# Altium schematic symbol library TE-2309413-1.SchLib: 1 symbol
Pins are listed as number, name and electrical type; pins without a type are passive.

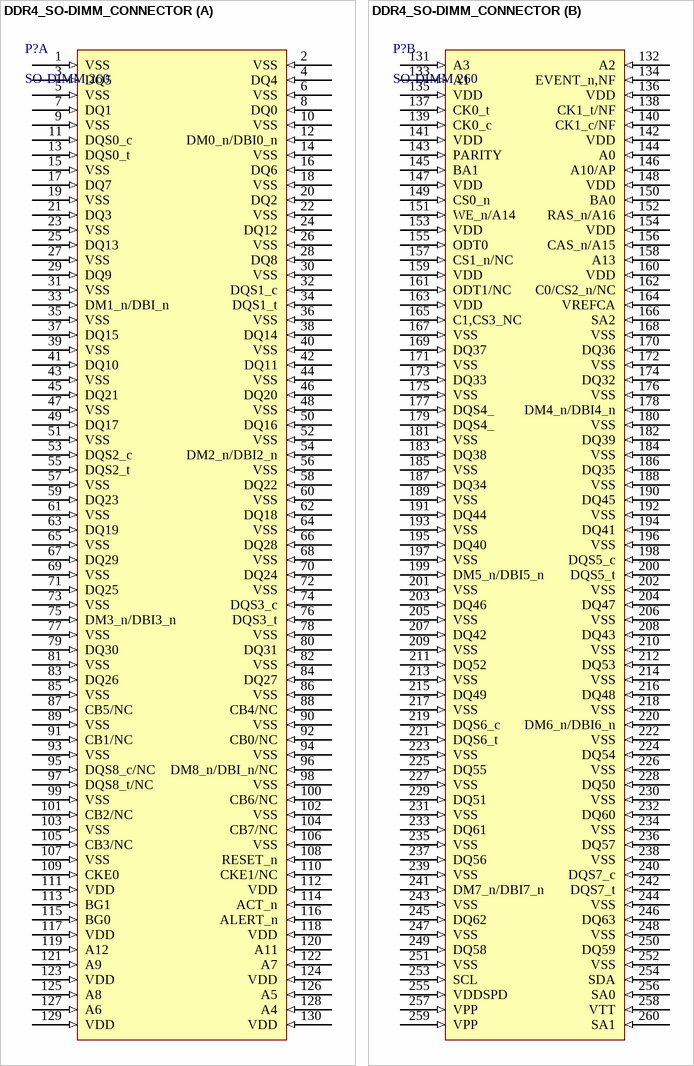
[diagram p0: symbol DDR4_SO-DIMM_CONNECTOR]

## DDR4_SO-DIMM_CONNECTOR
designator P?, comment SO-DIMM 260
footprint TE_2309413-1_2309413-1(Primary)
part A pins: 1 VSS (in), 2 VSS (in), 3 DQ5 (in), 4 DQ4 (in), 5 VSS (in), 6 VSS (in), 7 DQ1 (in), 8 DQ0 (in), 9 VSS (in), 10 VSS (in), 11 DQS0_c (in), 12 DM0_n/DBI0_n (in), 13 DQS0_t (in), 14 VSS (in), 15 VSS (in), 16 DQ6 (in), 17 DQ7 (in), 18 VSS (in), 19 VSS (in), 20 DQ2 (in), 21 DQ3 (in), 22 VSS (in), 23 VSS (in), 24 DQ12 (in), 25 DQ13 (in), 26 VSS (in), 27 VSS (in), 28 DQ8 (in), 29 DQ9 (in), 30 VSS (in), 31 VSS (in), 32 DQS1_c (in), 33 DM1_n/DBI_n (in), 34 DQS1_t (in), 35 VSS (in), 36 VSS (in), 37 DQ15 (in), 38 DQ14 (in), 39 VSS (in), 40 VSS (in), 41 DQ10 (in), 42 DQ11 (in), 43 VSS (in), 44 VSS (in), 45 DQ21 (in), 46 DQ20 (in), 47 VSS (in), 48 VSS (in), 49 DQ17 (in), 50 DQ16 (in), 51 VSS (in), 52 VSS (in), 53 DQS2_c (in), 54 DM2_n/DBI2_n (in), 55 DQS2_t (in), 56 VSS (in), 57 VSS (in), 58 DQ22 (in), 59 DQ23 (in), 60 VSS (in), 61 VSS (in), 62 DQ18 (in), 63 DQ19 (in), 64 VSS (in), 65 VSS (in), 66 DQ28 (in), 67 DQ29 (in), 68 VSS (in), 69 VSS (in), 70 DQ24 (in), 71 DQ25 (in), 72 VSS (in), 73 VSS (in), 74 DQS3_c (in), 75 DM3_n/DBI3_n (in), 76 DQS3_t (in), 77 VSS (in), 78 VSS (in), 79 DQ30 (in), 80 DQ31 (in), 81 VSS (in), 82 VSS (in), 83 DQ26 (in), 84 DQ27 (in), 85 VSS (in), 86 VSS (in), 87 CB5/NC (in), 88 CB4/NC (in), 89 VSS (in), 90 VSS (in), 91 CB1/NC (in), 92 CB0/NC (in), 93 VSS (in), 94 VSS (in), 95 DQS8_c/NC (in), 96 DM8_n/DBI_n/NC (in), 97 DQS8_t/NC (in), 98 VSS (in), 99 VSS (in), 100 CB6/NC (in), 101 CB2/NC (in), 102 VSS (in), 103 VSS (in), 104 CB7/NC (in), 105 CB3/NC (in), 106 VSS (in), 107 VSS (in), 108 RESET_n (in), 109 CKE0 (in), 110 CKE1/NC (in), 111 VDD (in), 112 VDD (in), 113 BG1 (in), 114 ACT_n (in), 115 BG0 (in), 116 ALERT_n (in), 117 VDD (in), 118 VDD (in), 119 A12 (in), 120 A11 (in), 121 A9 (in), 122 A7 (in), 123 VDD (in), 124 VDD (in), 125 A8 (in), 126 A5 (in), 127 A6 (in), 128 A4 (in), 129 VDD (in), 130 VDD (in)
part B pins: 131 A3 (in), 132 A2 (in), 133 A1 (in), 134 EVENT_n,NF (in), 135 VDD (in), 136 VDD (in), 137 CK0_t (in), 138 CK1_t/NF (in), 139 CK0_c (in), 140 CK1_c/NF (in), 141 VDD (in), 142 VDD (in), 143 PARITY (in), 144 A0 (in), 145 BA1 (in), 146 A10/AP (in), 147 VDD (in), 148 VDD (in), 149 CS0_n (in), 150 BA0 (in), 151 WE_n/A14 (in), 152 RAS_n/A16 (in), 153 VDD (in), 154 VDD (in), 155 ODT0 (in), 156 CAS_n/A15 (in), 157 CS1_n/NC (in), 158 A13 (in), 159 VDD (in), 160 VDD (in), 161 ODT1/NC (in), 162 C0/CS2_n/NC (in), 163 VDD (in), 164 VREFCA (in), 165 C1,CS3_NC (in), 166 SA2 (in), 167 VSS (in), 168 VSS (in), 169 DQ37 (in), 170 DQ36 (in), 171 VSS (in), 172 VSS (in), 173 DQ33 (in), 174 DQ32 (in), 175 VSS (in), 176 VSS (in), 177 DQS4_ (in), 178 DM4_n/DBI4_n (in), 179 DQS4_ (in), 180 VSS (in), 181 VSS (in), 182 DQ39 (in), 183 DQ38 (in), 184 VSS (in), 185 VSS (in), 186 DQ35 (in), 187 DQ34 (in), 188 VSS (in), 189 VSS (in), 190 DQ45 (in), 191 DQ44 (in), 192 VSS (in), 193 VSS (in), 194 DQ41 (in), 195 DQ40 (in), 196 VSS (in), 197 VSS (in), 198 DQS5_c (in), 199 DM5_n/DBI5_n (in), 200 DQS5_t (in), 201 VSS (in), 202 VSS (in), 203 DQ46 (in), 204 DQ47 (in), 205 VSS (in), 206 VSS (in), 207 DQ42 (in), 208 DQ43 (in), 209 VSS (in), 210 VSS (in), 211 DQ52 (in), 212 DQ53 (in), 213 VSS (in), 214 VSS (in), 215 DQ49 (in), 216 DQ48 (in), 217 VSS (in), 218 VSS (in), 219 DQS6_c (in), 220 DM6_n/DBI6_n (in), 221 DQS6_t (in), 222 VSS (in), 223 VSS (in), 224 DQ54 (in), 225 DQ55 (in), 226 VSS (in), 227 VSS (in), 228 DQ50 (in), 229 DQ51 (in), 230 VSS (in), 231 VSS (in), 232 DQ60 (in), 233 DQ61 (in), 234 VSS (in), 235 VSS (in), 236 DQ57 (in), 237 DQ56 (in), 238 VSS (in), 239 VSS (in), 240 DQS7_c (in), 241 DM7_n/DBI7_n (in), 242 DQS7_t (in), 243 VSS (in), 244 VSS (in), 245 DQ62 (in), 246 DQ63 (in), 247 VSS (in), 248 VSS (in), 249 DQ58 (in), 250 DQ59 (in), 251 VSS (in), 252 VSS (in), 253 SCL (in), 254 SDA (in), 255 VDDSPD (in), 256 SA0 (in), 257 VPP (in), 258 VTT (in), 259 VPP (in), 260 SA1 (in)